# EAGLE library part PINHD-1X9 (library HelaTronix - Connectors)
PIN HEADER
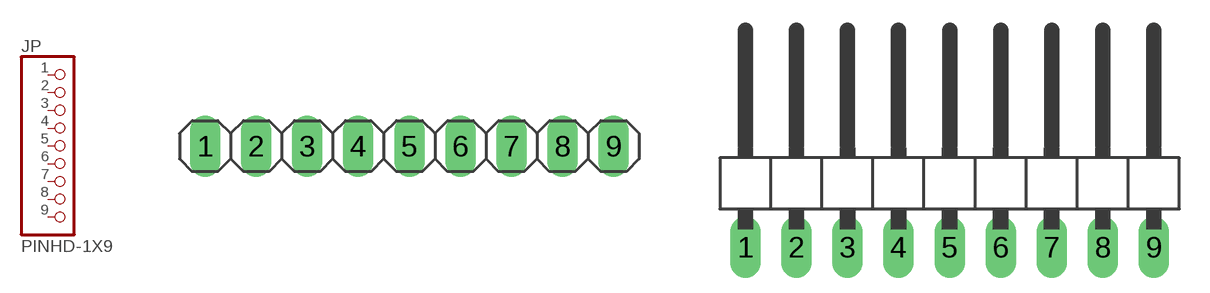
[diagram p6: symbol with the pads of 1X09; footprints 1X09, 1X09/90]

Designator prefix JP

## PINHD-1X9/180  [1X09]
1  1  pas
2  2  pas
3  3  pas
4  4  pas
5  5  pas
6  6  pas
7  7  pas
8  8  pas
9  9  pas

## PINHD-1X9/90  [1X09/90]
Pads as for 1X09

## PINHD-1X9-XH  [B9B-XH-A]
Pads as for 1X09

## PINHD-1X9/WJ2EDGVC-5.08  [WJ2EDGVC-5.08-9P]
Pads as for 1X09

## PINHD-1X9-KF2EDGR-2.54  [KF2EDGR-2.54-9P]
Pads as for 1X09

## PINHD-1X9/WJ2EDGRC-5.08  [WJ2EDGRC-5.08-9P]
Pads as for 1X09

## Footprint 1X09 (pad centres in mm)
PIN HEADER
drill 1.016 long: 1 -10.16,0; 2 -7.62,0; 3 -5.08,0; 4 -2.54,0; 5 0,0; 6 2.54,0; 7 5.08,0; 8 7.62,0; 9 10.16,0

## Footprint 1X09/90 (pad centres in mm)
PIN HEADER
drill 1.016 long: 1 -10.16,-3.81; 2 -7.62,-3.81; 3 -5.08,-3.81; 4 -2.54,-3.81; 5 0,-3.81; 6 2.54,-3.81; 7 5.08,-3.81; 8 7.62,-3.81; 9 10.16,-3.81

## Footprint B9B-XH-A (pad centres in mm)
drill 1 long: 1 -10.16,0; 2 -7.62,0; 3 -5.08,0; 4 -2.54,0; 5 0,0; 6 2.54,0; 7 5.08,0; 8 7.62,0; 9 10.16,0

## Footprint WJ2EDGVC-5.08-9P (pad centres in mm)
drill 1.6 long: 1 -20.32,0; 2 -15.24,0; 3 -10.16,0; 4 -5.08,0; 5 0,0; 6 5.08,0; 7 10.16,0; 8 15.24,0; 9 20.32,0

## Footprint KF2EDGR-2.54-9P (pad centres in mm)
Male KF2EDGK-2.54 Female 90 KF2EDGR-2.54
drill 1 long: 1 -10.16,0; 2 -7.62,0; 3 -5.08,0; 4 -2.54,0; 5 0,0; 6 2.54,0; 7 5.08,0; 8 7.62,0; 9 10.16,0

## Footprint WJ2EDGRC-5.08-9P (pad centres in mm)
Male - WJ2EDGK-5.08 Female 90 - WJ2EDGRC-5.08
drill 1.6 long: 1 -20.32,0; 2 -15.24,0; 3 -10.16,0; 4 -5.08,0; 5 0,0; 6 5.08,0; 7 10.16,0; 8 15.24,0; 9 20.32,0